# Altium footprint library PE014005.PcbLib: 1 footprints
Each footprint in its own frame and in the unit in brackets; x right, y up, seen from the top. Pads: shape width x height; smd on the part's side, far side on the other; paste and mask are expansions set on the pad; w line width, h text height; cw(c..) or ccw(c..) is an arc to the next point about the centre after c.
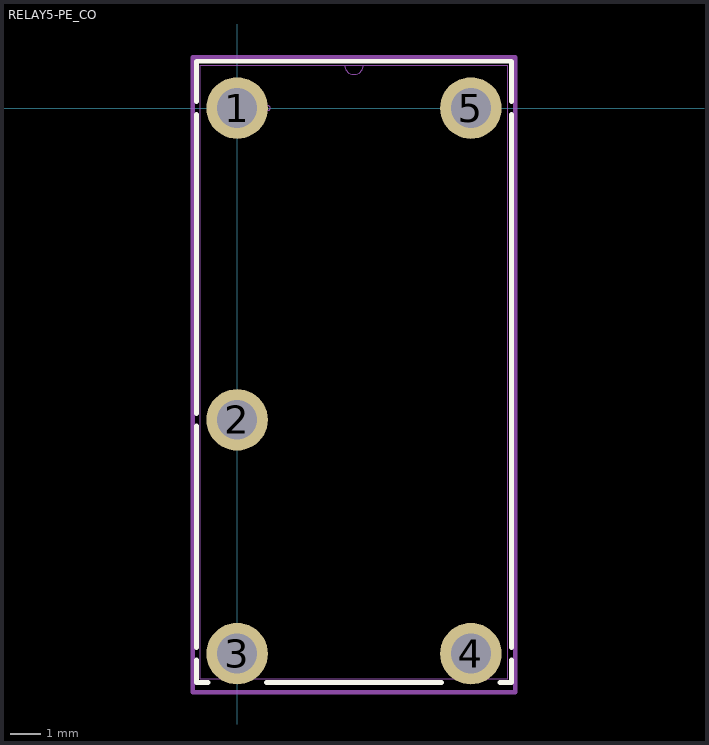
[diagram p0: the footprint, top view; thin cyan lines are the x and y axes]

## RELAY5-PE_CO [mil]
pads (5):
  round 79 hole 51 mask+0: 1(0,0) 2(0,-400) 3(0,-700) 4(300,-700) 5(300,0)
Top Overlay:
  lines w6: -52,-707.92 -52,-737 -37.39,-737 ; -52,-692.08 -52,-407.92 ; -52,-392.08 -52,-7.92 ; -52,7.92 -52,60 352,60 352,7.92 ; 37.39,-737 262.61,-737 ; 337.39,-737 352,-737 352,-707.92 ; 352,-692.08 352,-7.92
Mechanical 13:
  circle w0: c39.5,0 r3
  lines w0: 138,55 ccw(c150,55) 162,55
  lines w1: -47,-732 -47,55 347,55 347,-732 -47,-732
Mechanical 15:
  lines w6: -57,-749.5 357,-749.5 357,65 -57,65 -57,-749.5
3D body: height 10, standoff 0, extent 0,0 10,10
3D body "RELAY5-PE_CO.step": height 394.09, standoff -100, extent -45,-733.5 349.02,53.5